# EAGLE library part TXB0108PWR (library TI-TXB0108PWR)
8-BIT BIDIRECTIONAL VOLTAGE-LEVEL TRANSLATOR
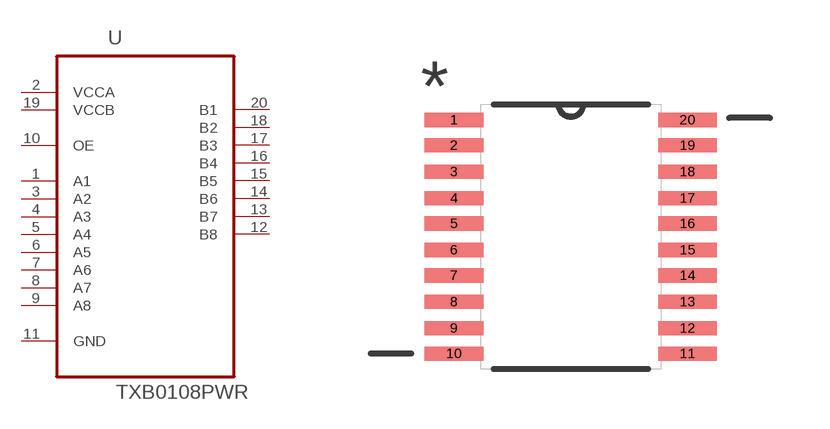
[diagram p0: symbol with the pads of SOP65P640X120-20N; footprint SOP65P640X120-20N]

Designator prefix U

## TXB0108PWR (MPN: TXB0108PWR; OC_FARNELL: 1494945; OC_NEWARK: 27M1151; PACKAGE: TSSOP-20; SUPPLIER: Texas Instruments)  [SOP65P640X120-20N]
1  A1
2  VCCA  pwr
3  A2
4  A3
5  A4
6  A5
7  A6
8  A7
9  A8
10  OE  in
11  GND  pas
12  B8
13  B7
14  B6
15  B5
16  B4
17  B3
18  B2
19  VCCB  pwr
20  B1

## Footprint SOP65P640X120-20N (pad centres in mm)
smd 1.473 x 0.356: 1 -2.921,2.921; 2 -2.921,2.286; 3 -2.921,1.626; 4 -2.921,0.965; 5 -2.921,0.33; 6 -2.921,-0.33; 7 -2.921,-0.965; 8 -2.921,-1.626; 9 -2.921,-2.286; 10 -2.921,-2.921; 11 2.921,-2.921; 12 2.921,-2.286; 13 2.921,-1.626; 14 2.921,-0.965; 15 2.921,-0.33; 16 2.921,0.33; 17 2.921,0.965; 18 2.921,1.626; 19 2.921,2.286; 20 2.921,2.921